# EAGLE library part BT-*-S (library relay-custom)
KLEIN RELAIS WASCHDICHT 2 Wechsler Distriibutor: Conrad Electronic, Bestell Nr.: 505226-13 - 24V 505226-13 - 5V 505170-13 - 12V 505170-13 - 48V Bestar Electric Ltd. Source: http://www2.produktinfo.conrad.com/datenblaetter/500000-524999/505226-da-01-en-Kleinrelais_waschdicht_24V.pdf
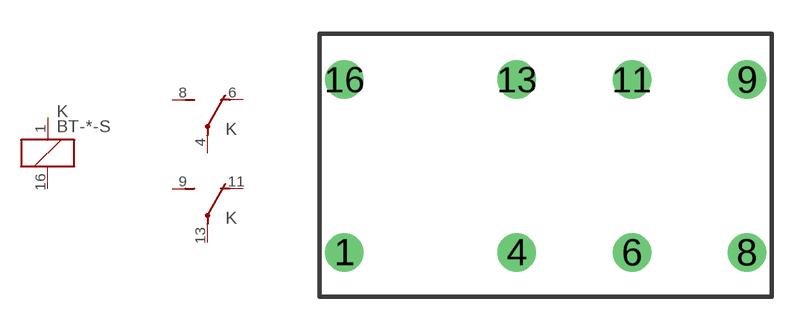
[diagram p144: symbol with the pads of BT-XX-S; footprint BT-XX-S]

Designator prefix K; gates K=K -1=U -2=U

## BT-12-S (OC_FARNELL: unknown; OC_NEWARK: unknown), BT-24-S (OC_FARNELL: unknown; OC_NEWARK: unknown), BT-48-S (OC_FARNELL: unknown; OC_NEWARK: unknown), BT-5-S (OC_FARNELL: unknown; OC_NEWARK: unknown), BT-6-S (OC_FARNELL: unknown; OC_NEWARK: unknown), BT-9-S (OC_FARNELL: unknown; OC_NEWARK: unknown)  [BT-XX-S]
1  K:1  pas
4  -1:P  pas
6  -1:O  pas
8  -1:S  pas
9  -2:S  pas
11  -2:O  pas
13  -2:P  pas
16  K:2  pas

## Footprint BT-XX-S (pad centres in mm)
<ULTRA MINIATUR RELAY Bestar Electric Ltd. Source: http://www2.produktinfo.conrad.com/datenblaetter/500000-524999/505226-da-01-en-Kleinrelais_waschdicht_24V.pdf
drill 1 pad 1.7: 1 -8.89,-3.81; 4 -1.27,-3.81; 6 3.81,-3.81; 8 8.89,-3.81; 9 8.89,3.81; 11 3.81,3.81; 13 -1.27,3.81; 16 -8.89,3.81